# Altium integrated library ST Peripheral Smart Card.IntLib: 1 symbol
Pins are listed as number, name and electrical type; pins without a type are passive.

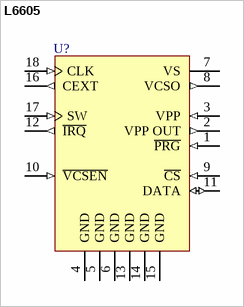
[diagram p0: symbol L6605]

## L6605
designator U?
Smart Card Interface; Published: 24-Aug-2001; LatestRevisionDate: 06-Jun-2005; LatestRevisionNote: Stylized 3D Model Added.; DatasheetVersion: Dec-1992; PackageReference: PDIP18; Publisher: Altium Limited; PackageDescription: DIP; 18 Leads; Row Spacing 7.62 mm; Pitch 2.54 mm; ComponentLink1Description: Manufacturer Link; ComponentLink1URL: http://www.st.com/
footprint PDIP18 (DIP; 18 Leads; Row Spacing 7.62 mm; Pitch 2.54 mm)
3D model PDIP18 (DIP; 18 Leads; Row Spacing 7.62 mm; Pitch 2.54 mm)
pins: 1 ~{PRG} (in), 2 VPP OUT (out), 3 VPP (in), 4 GND (power), 5 GND (power), 6 GND (power), 7 VS (power), 8 VCSO (out), 9 ~{CS} (in), 10 ~{VCSEN} (in), 11 DATA (io), 12 ~{IRQ} (out), 13 GND (power), 14 GND (power), 15 GND (power), 16 CEXT (out), 17 SW (in), 18 CLK (in)